# Altium footprint library Funk.PcbLib: 7 footprints
Each footprint in its own frame and in the unit in brackets; x right, y up, seen from the top. Pads: shape width x height; smd on the part's side, far side on the other; paste and mask are expansions set on the pad; w line width, h text height; cw(c..) or ccw(c..) is an arc to the next point about the centre after c.
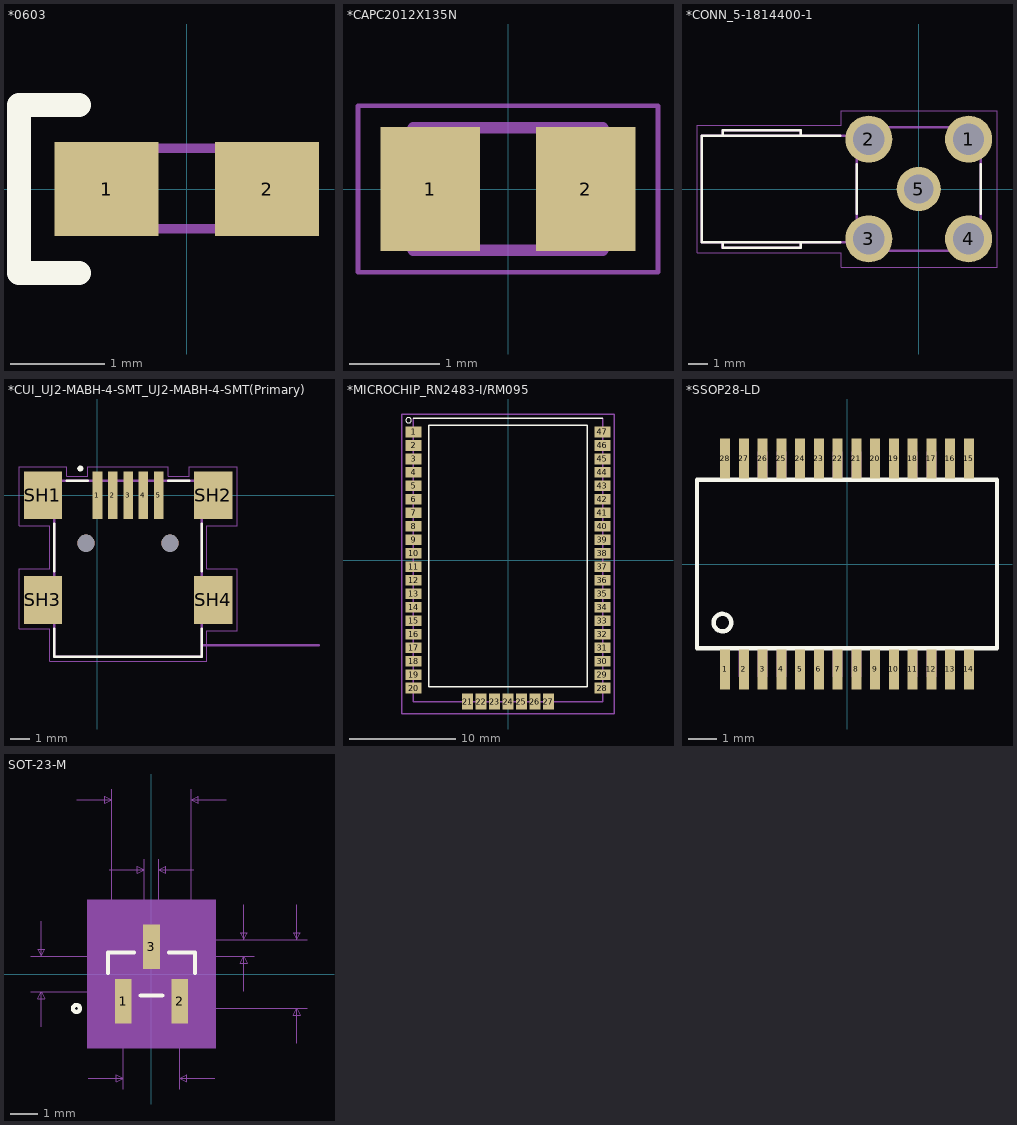
[diagram p0: the footprints below, top view; thin cyan lines are the x and y axes]

## *0603 [mm]
pads (2):
  rect 1.1x1 smd: 1(-0.85,0) 2(0.85,0)
Top Overlay:
  lines w0.254: -1.143,-0.889 -1.778,-0.889 -1.778,-0.762 -1.778,0.889 -1.143,0.889
Mechanical 4:
  region: 0.331,0.48 0.83,0.48 0.83,-0.471 0.331,-0.471
  region: -0.841,0.48 -0.338,0.48 -0.338,-0.472 -0.841,-0.472
  region: 0.331,0.48 0.83,0.48 0.83,-0.471 0.331,-0.471
  region: -0.841,0.48 -0.338,0.48 -0.338,-0.472 -0.841,-0.472
  lines w0.102: -0.356,-0.419 0.356,-0.419 -0.356,-0.419 ; -0.356,0.432 0.356,0.432 -0.356,0.432
3D body "LTST-C190KRKT.STEP": height 0.8, standoff 0, extent -0.8,-0.419 0.8,0.381

## *CAPC2012X135N [mm]
pads (2):
  rect 1.1x1.38 smd: 1(-0.863,0) 2(0.863,0)
Mechanical 4:
  lines w0.127: -1.05,-0.68 -1.05,0.68 ; -1.05,-0.68 1.05,-0.68 ; -1.05,-0.68 -1.05,0.68 ; -1.05,-0.68 1.05,-0.68 ; -1.05,0.68 1.05,0.68 ; -1.05,0.68 1.05,0.68 ; 1.05,-0.68 1.05,0.68 ; 1.05,-0.68 1.05,0.68
Mechanical 16:
  lines w0.05: -1.665,-0.925 -1.665,0.925 1.665,0.925 1.665,-0.925 -1.665,-0.925

## *CONN_5-1814400-1 [mm]
pads (5):
  round 2.4 hole 1.6: 1(2.54,2.54) 2(-2.54,2.54) 3(-2.54,-2.54) 4(2.54,-2.54)
  round 2.25 hole 1.5: 5(0,0)
Top Overlay:
  lines w0.127: -10,-2.75 -10,-3 -6,-3 -6,-2.75 ; -10,2.75 -10,3 -6,3 -6,2.75 ; -4,-2.725 -11.05,-2.725 -11.05,2.725 -4,2.725 ; -3.15,-1.25 -3.15,1.25 ; 3.15,-1.25 3.15,1.25
Mechanical 4:
  lines w0.127: -11.05,-2.725 -3.238,-2.725 -11.05,-2.725 ; -11.05,-2.725 -11.05,2.725 ; -11.05,-2.725 -11.05,2.725 ; -11.05,2.725 -3.238,2.725 -11.05,2.725 ; -10.002,-3 -10.002,-2.75 -10.002,-3 ; -10.002,-3 -6.002,-3 ; -10.002,-3 -6.002,-3 ; -10,3 -10,2.75 -10,3 ; -10,3 -6,3 ; -10,3 -6,3 ; -6.002,-3 -6.002,-2.75 -6.002,-3 ; -6,3 -6,2.75 -6,3 ; -3.15,-3.15 -3.15,3.15 ; -3.15,-3.15 3.15,-3.15 ; -3.15,-3.15 -3.15,3.15 ; -3.15,-3.15 3.15,-3.15 ; -3.15,3.15 3.15,3.15 ; -3.15,3.15 3.15,3.15 ; 3.15,-3.15 3.15,3.15 ; 3.15,-3.15 3.15,3.15
Mechanical 16:
  lines w0.05: -11.3,-3.25 -11.3,3.25 -3.95,3.25 -3.95,3.99 3.99,3.99 3.99,-3.99 -3.95,-3.99 -3.95,-3.25 -11.3,-3.25
3D body "c-5-1814400-1-d-3d.stp": height 10.42, standoff -3.11, extent -11.025,-3.164 3.175,3.164

## *CUI_UJ2-MABH-4-SMT_UJ2-MABH-4-SMT(Primary) [mm]
pads (11):
  rect 0.5x2.5 smd: 1(0,0) 2(0.8,0) 3(1.6,0) 4(2.4,0) 5(3.2,0)
  round 0.9 hole 0.9 unplated: None(-0.6,-2.51) None(3.8,-2.51)
  rect 2x2.5 smd: SH1(-2.86,0) SH2(6.06,0) SH3(-2.86,-5.48) SH4(6.06,-5.48)
Top Overlay:
  circle w0.16: c-0.9,1.4 r0.08
  lines w0.127: -2.26,-6.98 -2.26,-8.45 5.46,-8.45 5.46,-6.98 ; -2.26,-3.98 -2.26,-1.5 ; -1.61,0.75 -0.5,0.75 ; 3.7,0.75 4.81,0.75 ; 5.46,-3.98 5.46,-1.5
Mechanical 4:
  circle w0.16: c0,0.15 r0.08
  circle w0.16: c0,0.15 r0.08
  lines w0.127: -2.26,-8.45 5.46,-8.45 ; -2.26,-8.45 -2.26,0.75 ; -2.26,-8.45 5.46,-8.45 ; -2.26,-8.45 -2.26,0.75 ; -2.26,0.75 5.46,0.75 ; -2.26,0.75 5.46,0.75 ; 5.46,-8.45 5.46,-7.85 ; 5.46,-8.45 5.46,-7.85 ; 5.46,-7.85 5.46,0.75 ; 5.46,-7.85 11.6,-7.85 5.46,-7.85 ; 5.46,-7.85 5.46,0.75
  text "PCB EDGE" at 5.85,-9.1 h1.88
  text "PCB EDGE" at 5.85,-9.1 h1.88
Mechanical 16:
  lines w0.05: -4.11,-6.98 -4.11,-3.85 -2.51,-3.85 -2.51,-1.6 -4.11,-1.6 -4.11,1.5 -1.61,1.5 -1.61,1 -0.5,1 -0.5,1.5 3.7,1.5 3.7,1 4.81,1 4.81,1.5 7.31,1.5 7.31,-1.6 5.71,-1.6 5.71,-3.85 7.31,-3.85 7.31,-7.1 5.71,-7.1 5.71,-8.7 -2.51,-8.7 -2.51,-6.98 -4.11,-6.98
3D body "CUI_UJ2-MABH-4-SMT.step": height 3.93, standoff -0.95, extent -3.179,-8.418 6.481,0.962

## *MICROCHIP_RN2483-I/RM095 [mil]
pads (47):
  rect 60x40 smd: 1(-350,475) 2(-350,425) 3(-350,375) 4(-350,325) 5(-350,275) 6(-350,225) 7(-350,175) 8(-350,125) 9(-350,75) 10(-350,25) 11(-350,-25) 12(-350,-75) 13(-350,-125) 14(-350,-175) 15(-350,-225) 16(-350,-275) 17(-350,-325) 18(-350,-375) 19(-350,-425) 20(-350,-475) 28(350,-475) 29(350,-425) 30(350,-375) 31(350,-325) 32(350,-275) 33(350,-225) 34(350,-175) 35(350,-125) 36(350,-75) 37(350,-25) 38(350,25) 39(350,75) 40(350,125) 41(350,175) 42(350,225) 43(350,275) 44(350,325) 45(350,375) 46(350,425) 47(350,475)
  rect 40x60 smd: 21(-150,-525) 22(-100,-525) 23(-50,-525) 24(0,-525) 25(50,-525) 26(100,-525) 27(150,-525)
Top Overlay:
  circle w0: c-368.5,518.31 r10
  lines w5: -350.39,525.59 350.39,525.59 ; -294.49,-469.69 294.49,-469.69 294.49,499.61 -294.49,499.61 -294.49,-469.69
Mechanical 4:
  lines w5: -350.39,-525.59 350.39,-525.59 ; -350.39,-525.59 -350.39,525.59 -350.39,-525.59 ; -350.39,-525.59 350.39,-525.59 ; 350.39,-525.59 350.39,525.59 350.39,-525.59
Mechanical 16:
  lines w5: -393.7,-570.87 -393.7,541.34 393.7,541.34 393.7,-570.87 -393.7,-570.87
3D body "RN2483.step": height 118.11, standoff -1.02, extent -350.79,-529.99 349.99,520.01

## *SSOP28-LD [mil]
pads (28):
  rect 13.7x55 smd: 1(-166.34,-143.94) 2(-140.75,-143.94) 3(-115.16,-143.94) 4(-89.57,-143.94) 5(-63.98,-143.94) 6(-38.39,-143.94) 7(-12.8,-143.94) 8(12.8,-143.94) 9(38.39,-143.94) 10(63.98,-143.94) 11(89.57,-143.94) 12(115.16,-143.94) 13(140.75,-143.94) 14(166.34,-143.94) 15(166.34,143.94) 16(140.75,143.94) 17(115.16,143.94) 18(89.57,143.94) 19(63.98,143.94) 20(38.39,143.94) 21(12.8,143.94) 22(-12.8,143.94) 23(-38.39,143.94) 24(-63.98,143.94) 25(-89.57,143.94) 26(-115.16,143.94) 27(-140.75,143.94) 28(-166.34,143.94)
Top Overlay:
  circle w6: c-170,-80 r12
  lines w6: -204.72,-115.16 204.72,-115.16 204.72,115.16 -204.72,115.16 -204.72,-115.16
Mechanical 4:
  drawing of 56 lines, arcs and shapes, not listed
3D body "User Library-SSOP-28-FT232RL.STEP": height 85.04, standoff 0, extent -203.35,-152.67 203.34,152.68

## SOT-23-M [mm]
pads (3):
  rect 0.61x1.61 smd paste+0 mask+0: 1(-1.025,-0.995) 2(1.025,-0.995) 3(0,0.995)
Top Overlay:
  circle w0.152: c-2.72,-1.25 r0.127
  lines w0.152: -1.577,0.033 -1.577,0.777 -0.638,0.777 ; -0.387,-0.777 0.387,-0.777 ; 0.638,0.777 1.577,0.777 1.577,0.033
Mechanical 5:
  region: -2.339,2.689 2.339,2.689 2.339,-2.689 -2.339,-2.689
Mechanical 7:
  lines w0.025: -4.371,-0.65 0,-0.65 ; -4.371,0.65 0,0.65 ; -3.99,-1.92 -3.99,-0.65 ; -3.99,1.92 -3.99,0.65 ; -2.72,6.33 -1.45,6.33 ; -2.295,-3.79 -1.025,-3.79 ; -1.525,3.79 -0.255,3.79 ; -1.45,0.65 -1.45,6.711 ; -1.025,-4.171 -1.025,-1.25 ; -0.255,1.25 -0.255,4.171 ; 0,-1.25 5.641,-1.25 ; 0,0.64 3.736,0.64 ; 0.255,1.25 0.255,4.171 ; 1.025,-4.171 1.025,-1.25 ; 1.45,0.65 1.45,6.711 ; 1.525,3.79 0.255,3.79 ; 2.295,-3.79 1.025,-3.79 ; 2.72,6.33 1.45,6.33 ; 3.355,-0.63 3.355,0.64 ; 3.355,2.52 3.355,1.25 ; 3.736,1.25 0,1.25 5.641,1.25 ; 5.26,-2.52 5.26,-1.25 ; 5.26,2.52 5.26,1.25 ; -3.99,-0.65 -4.117,-0.904 -3.863,-0.904 -3.99,-0.65 ; -3.99,0.65 -4.117,0.904 -3.863,0.904 -3.99,0.65 ; -1.45,6.33 -1.704,6.457 -1.704,6.203 -1.45,6.33 ; -1.025,-3.79 -1.279,-3.663 -1.279,-3.917 -1.025,-3.79 ; -0.255,3.79 -0.509,3.917 -0.509,3.663 -0.255,3.79 ; 0.255,3.79 0.509,3.917 0.509,3.663 0.255,3.79 ; 1.025,-3.79 1.279,-3.663 1.279,-3.917 1.025,-3.79 ; 1.45,6.33 1.704,6.457 1.704,6.203 1.45,6.33 ; 3.355,0.64 3.228,0.386 3.482,0.386 3.355,0.64 ; 3.355,1.25 3.228,1.504 3.482,1.504 3.355,1.25 ; 5.26,-1.25 5.133,-1.504 5.387,-1.504 5.26,-1.25 ; 5.26,1.25 5.133,1.504 5.387,1.504 5.26,1.25
  text "Top Padstyle: r61_161" at -6.667,-8.15 h1.27
  text "Bottom Padstyle: r61_161" at -7.62,-10.055 h1.27
  text "Alt 1 Padstyle: b152_229h76" at -8.572,-11.96 h1.27
  text "Alt 2 Padstyle: b229_152h76" at -8.572,-13.865 h1.27
  text "0.098in/2.5mm" at 5.768,-0.318 h0.64
  text "0.024in/0.61mm" at 3.863,0.627 h0.64
  text "0.081in/2.05mm" at -2.222,-4.933 h0.64
  text "0.02in/0.51mm" at -2.064,4.298 h0.64
  text "0.114in/2.9mm" at -2.064,6.838 h0.64
  text "0.051in/1.3mm" at -8.625,-0.318 h0.64
Mechanical 13:
  circle w0: c-1.196,-0.396 r0.127
  lines w0.025: -1.45,-0.65 1.45,-0.65 1.45,0.65 -1.45,0.65 -1.45,-0.65 ; -1.28,-1.25 -1.28,-0.65 -0.77,-0.65 -0.77,-1.25 -1.28,-1.25 ; -0.255,0.65 0.255,0.65 0.255,1.25 -0.255,1.25 -0.255,0.65 ; 0.77,-1.25 0.77,-0.65 1.28,-0.65 1.28,-1.25 0.77,-1.25
Mechanical 15:
  region: -1.958,-1.158 -1.958,1.158 -0.813,1.158 -0.813,2.308 0.813,2.308 0.813,1.158 1.958,1.158 1.958,-1.158 1.838,-1.158 1.838,-2.308 -1.838,-2.308 -1.838,-1.158
  region: 1.45,-0.65 -1.45,-0.65 -1.45,0.65 1.45,0.65
  lines w0.152: -1.958,-1.158 -1.958,1.158 -0.813,1.158 -0.813,2.308 0.813,2.308 0.813,1.158 1.958,1.158 1.958,-1.158 1.838,-1.158 1.838,-2.308 -1.838,-2.308 -1.838,-1.158 -1.958,-1.158
3D body: height 0.25, standoff 0, extent 0,0 0.254,0.254